# Altium footprint library LEDC1608X80N.PcbLib: 1 footprints
Each footprint in its own frame and in the unit in brackets; x right, y up, seen from the top. Pads: shape width x height; smd on the part's side, far side on the other; paste and mask are expansions set on the pad; w line width, h text height; cw(c..) or ccw(c..) is an arc to the next point about the centre after c.
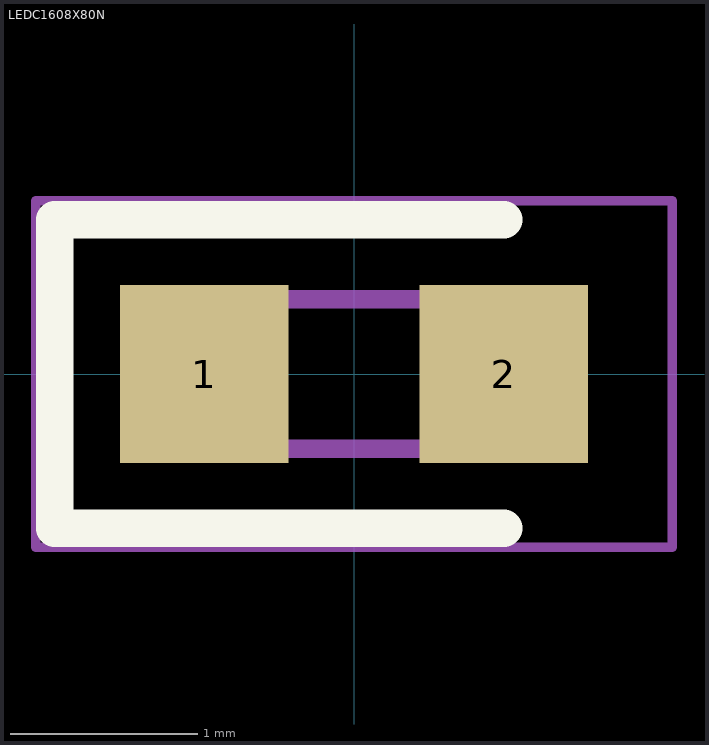
[diagram p0: the footprint, top view; thin cyan lines are the x and y axes]

## LEDC1608X80N [mm]
pads (2):
  rect 0.9x0.95 smd: 1(-0.8,0) 2(0.8,0)
Top Overlay:
  lines w0.2: 0.8,-0.825 -1.6,-0.825 -1.6,0.825 0.8,0.825
Mechanical 15:
  lines w0.1: -0.8,0.133 -0.533,0.4 ; -0.8,-0.4 -0.8,0.4 0.8,0.4 0.8,-0.4 -0.8,-0.4
Mechanical 20:
  lines w0.05: -1.7,-0.925 -1.7,0.925 1.7,0.925 1.7,-0.925 -1.7,-0.925
3D body "LTST-C190KGKT.stp": height 0.77, standoff -0.03, extent -0.8,-0.4 0.8,0.4